# EAGLE library part LCD-16 (library machine_science2)
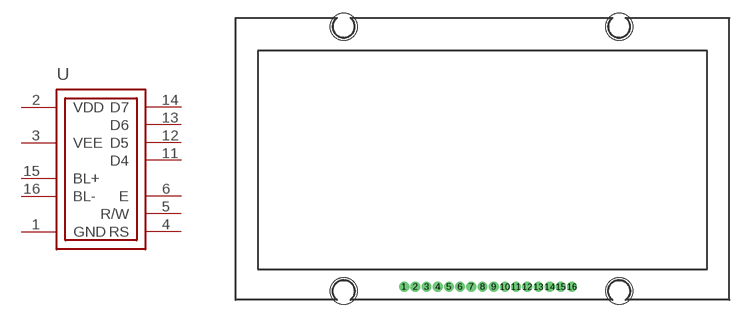
[diagram p1: symbol with the pads of NHD-0212WH(16-PIN); footprint NHD-0212WH(16-PIN)]

Designator prefix -

## LCD-16-NHD-0212WH(16-PIN)  [NHD-0212WH(16-PIN)]
1  GND  pwr
2  VDD  pwr
3  VEE  pwr
4  RS  pas
5  R/W  pas
6  E
11  D4
12  D5
13  D6
14  D7
15  BL+  pwr
16  BL-  pwr

## Footprint NHD-0212WH(16-PIN) (pad centres in mm)
drill 0.6 pad 1 round: 1 -8.89,-2.54; 2 -7.62,-2.54; 3 -6.35,-2.54; 4 -5.08,-2.54; 5 -3.81,-2.54; 6 -2.54,-2.54; 7 -1.27,-2.54; 8 0,-2.54; 9 1.27,-2.54; 10 2.54,-2.54; 11 3.81,-2.54; 12 5.08,-2.54; 13 6.35,-2.54; 14 7.62,-2.54; 15 8.89,-2.54; 16 10.16,-2.54
hole 3.048 at -15.75,-3.04
hole 3.048 at -15.75,26.96
hole 3.048 at 15.5,26.96
hole 3.048 at 15.5,-3.04